# Altium footprint library MCUs.PcbLib: 27 footprints (part 1 of 2)
Each footprint in its own frame and in the unit in brackets; x right, y up, seen from the top. Pads: shape width x height; smd on the part's side, far side on the other; paste and mask are expansions set on the pad; w line width, h text height; cw(c..) or ccw(c..) is an arc to the next point about the centre after c.
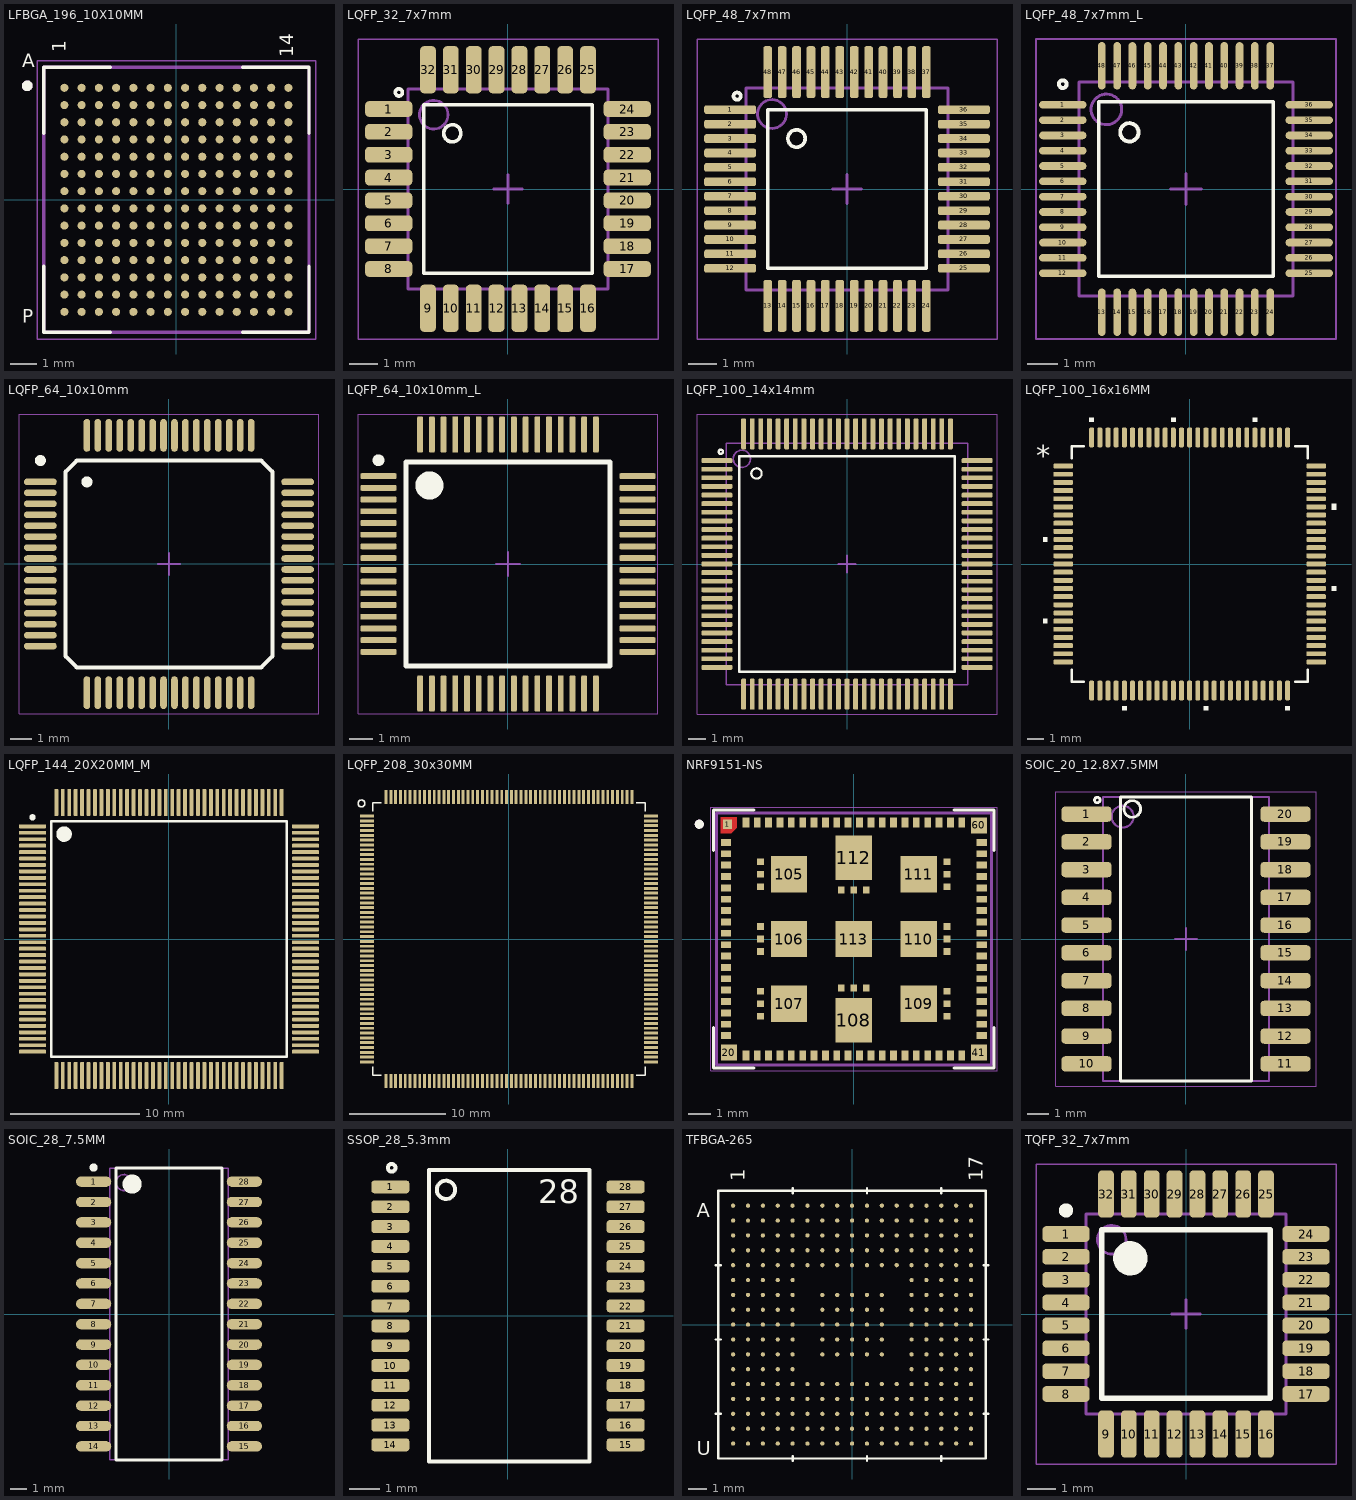
[diagram p0: the footprints below, top view; thin cyan lines are the x and y axes]

## LFBGA_196_10X10MM [mm] "20230731/ N-A.Potosi"
pads (196):
  round 0.305 smd paste-0.013 mask+0.076: A1(-4.225,4.225) A2(-3.575,4.225) A3(-2.925,4.225) A4(-2.275,4.225) A5(-1.625,4.225) A6(-0.975,4.225) A7(-0.325,4.225) A8(0.325,4.225) A9(0.975,4.225) A10(1.625,4.225) A11(2.275,4.225) A12(2.925,4.225) A13(3.575,4.225) A14(4.225,4.225) B1(-4.225,3.575) B2(-3.575,3.575) B3(-2.925,3.575) B4(-2.275,3.575) B5(-1.625,3.575) B6(-0.975,3.575) B7(-0.325,3.575) B8(0.325,3.575) B9(0.975,3.575) B10(1.625,3.575) B11(2.275,3.575) B12(2.925,3.575) B13(3.575,3.575) B14(4.225,3.575) C1(-4.225,2.925) C2(-3.575,2.925) C3(-2.925,2.925) C4(-2.275,2.925) C5(-1.625,2.925) C6(-0.975,2.925) C7(-0.325,2.925) C8(0.325,2.925) C9(0.975,2.925) C10(1.625,2.925) C11(2.275,2.925) C12(2.925,2.925) C13(3.575,2.925) C14(4.225,2.925) D1(-4.225,2.275) D2(-3.575,2.275) D3(-2.925,2.275) D4(-2.275,2.275) D5(-1.625,2.275) D6(-0.975,2.275) D7(-0.325,2.275) D8(0.325,2.275) D9(0.975,2.275) D10(1.625,2.275) D11(2.275,2.275) D12(2.925,2.275) D13(3.575,2.275) D14(4.225,2.275) E1(-4.225,1.625) E2(-3.575,1.625) E3(-2.925,1.625) E4(-2.275,1.625) E5(-1.625,1.625) E6(-0.975,1.625) E7(-0.325,1.625) E8(0.325,1.625) E9(0.975,1.625) E10(1.625,1.625) E11(2.275,1.625) E12(2.925,1.625) E13(3.575,1.625) E14(4.225,1.625) F1(-4.225,0.975) F2(-3.575,0.975) F3(-2.925,0.975) F4(-2.275,0.975) F5(-1.625,0.975) F6(-0.975,0.975) F7(-0.325,0.975) F8(0.325,0.975) F9(0.975,0.975) F10(1.625,0.975) F11(2.275,0.975) F12(2.925,0.975) F13(3.575,0.975) F14(4.225,0.975) G1(-4.225,0.325) G2(-3.575,0.325) G3(-2.925,0.325) G4(-2.275,0.325) G5(-1.625,0.325) G6(-0.975,0.325) G7(-0.325,0.325) G8(0.325,0.325) G9(0.975,0.325) G10(1.625,0.325) G11(2.275,0.325) G12(2.925,0.325) G13(3.575,0.325) G14(4.225,0.325) H1(-4.225,-0.325) H2(-3.575,-0.325) H3(-2.925,-0.325) H4(-2.275,-0.325) H5(-1.625,-0.325) H6(-0.975,-0.325) H7(-0.325,-0.325) H8(0.325,-0.325) H9(0.975,-0.325) H10(1.625,-0.325) H11(2.275,-0.325) H12(2.925,-0.325) H13(3.575,-0.325) H14(4.225,-0.325) J1(-4.225,-0.975) J2(-3.575,-0.975) J3(-2.925,-0.975) J4(-2.275,-0.975) J5(-1.625,-0.975) J6(-0.975,-0.975) J7(-0.325,-0.975) J8(0.325,-0.975) J9(0.975,-0.975) J10(1.625,-0.975) J11(2.275,-0.975) J12(2.925,-0.975) J13(3.575,-0.975) J14(4.225,-0.975) K1(-4.225,-1.625) K2(-3.575,-1.625) K3(-2.925,-1.625) K4(-2.275,-1.625) K5(-1.625,-1.625) K6(-0.975,-1.625) K7(-0.325,-1.625) K8(0.325,-1.625) K9(0.975,-1.625) K10(1.625,-1.625) K11(2.275,-1.625) K12(2.925,-1.625) K13(3.575,-1.625) K14(4.225,-1.625) L1(-4.225,-2.275) L2(-3.575,-2.275) L3(-2.925,-2.275) L4(-2.275,-2.275) L5(-1.625,-2.275) L6(-0.975,-2.275) L7(-0.325,-2.275) L8(0.325,-2.275) L9(0.975,-2.275) L10(1.625,-2.275) L11(2.275,-2.275) L12(2.925,-2.275) L13(3.575,-2.275) L14(4.225,-2.275) M1(-4.225,-2.925) M2(-3.575,-2.925) M3(-2.925,-2.925) M4(-2.275,-2.925) M5(-1.625,-2.925) M6(-0.975,-2.925) M7(-0.325,-2.925) M8(0.325,-2.925) M9(0.975,-2.925) M10(1.625,-2.925) M11(2.275,-2.925) M12(2.925,-2.925) M13(3.575,-2.925) M14(4.225,-2.925) N1(-4.225,-3.575) N2(-3.575,-3.575) N3(-2.925,-3.575) N4(-2.275,-3.575) N5(-1.625,-3.575) N6(-0.975,-3.575) N7(-0.325,-3.575) N8(0.325,-3.575) N9(0.975,-3.575) N10(1.625,-3.575) N11(2.275,-3.575) N12(2.925,-3.575) N13(3.575,-3.575) N14(4.225,-3.575) P1(-4.225,-4.225) P2(-3.575,-4.225) P3(-2.925,-4.225) P4(-2.275,-4.225) P5(-1.625,-4.225) P6(-0.975,-4.225) P7(-0.325,-4.225) P8(0.325,-4.225) P9(0.975,-4.225) P10(1.625,-4.225) P11(2.275,-4.225) P12(2.925,-4.225) P13(3.575,-4.225) P14(4.225,-4.225)
Top Overlay:
  circle w0.2: c-5.625,4.3 r0.1
  lines w0.127: -5,-2.5 -5,-5 -2.5,-5 ; -5,2.5 -5,5 -2.5,5 ; 2.5,-5 5,-5 5,-2.5 ; 2.5,5 5,5 5,2.5
  text "14" at 4.41,5.374 h0.51
  text "1" at -4.174,5.557 h0.51
  text "P" at -5.81,-4.63 h0.51
  text "A" at -5.81,5 h0.51
Mechanical 1:
  circle w0.2: c-5.625,4.3 r0.1
  lines w0.127: -5,-5 -5,5 5,5 5,-5 -5,-5
Mechanical 15:
  lines w0.05: -5.25,-5.25 5.25,-5.25 5.25,5.25 -5.25,5.25 -5.25,-5.25
3D body "MIMXRT1062DVL6A--3DModel-STEP-56544.STEP": height 1.49, standoff -0.03, extent -4.996,-5.022 5.004,4.978

## LQFP_32_7x7mm [mm] "32-LQFP / 20190221 / H-D.Garcia"
height 1.6
pads (32):
  rrect50% 1.65x0.55 smd: 1(-4.175,2.8) 2(-4.175,2) 3(-4.175,1.2) 4(-4.175,0.4) 5(-4.175,-0.4) 6(-4.175,-1.2) 7(-4.175,-2) 8(-4.175,-2.8) 17(4.175,-2.8) 18(4.175,-2) 19(4.175,-1.2) 20(4.175,-0.4) 21(4.175,0.4) 22(4.175,1.2) 23(4.175,2) 24(4.175,2.8)
  rrect50% 0.55x1.65 smd: 9(-2.8,-4.175) 10(-2,-4.175) 11(-1.2,-4.175) 12(-0.4,-4.175) 13(0.4,-4.175) 14(1.2,-4.175) 15(2,-4.175) 16(2.8,-4.175) 25(2.8,4.175) 26(2,4.175) 27(1.2,4.175) 28(0.4,4.175) 29(-0.4,4.175) 30(-1.2,4.175) 31(-2,4.175) 32(-2.8,4.175)
Top Overlay:
  circle w0.127: c-1.95,1.95 r0.3
  circle w0.127: c-3.82,3.38 r0.125
  lines w0.127: -2.95,-2.95 2.95,-2.95 2.95,2.95 -2.95,2.95 -2.95,-2.95
Mechanical 1:
  circle w0.1: c-2.6,2.6 r0.5
  lines w0.1: -3.5,-3.5 3.5,-3.5 3.5,3.5 -3.5,3.5 -3.5,-3.5
Mechanical 15:
  lines w0.05: -5.25,-5.25 5.25,-5.25 5.25,5.25 -5.25,5.25 -5.25,-5.25
  lines w0.1: -0.5,0 0.5,0 ; 0,-0.5 0,0.5
3D body: height 1.6, standoff 0.05, extent -3.5,-3.5 3.5,3.5

## LQFP_48_7x7mm [mm] "48-LQFP / 20190221 / H-D.Garcia"
height 1.6
pads (48):
  rrect50% 1.8x0.3 smd: 1(-4.05,2.75) 2(-4.05,2.25) 3(-4.05,1.75) 4(-4.05,1.25) 5(-4.05,0.75) 6(-4.05,0.25) 7(-4.05,-0.25) 8(-4.05,-0.75) 9(-4.05,-1.25) 10(-4.05,-1.75) 11(-4.05,-2.25) 12(-4.05,-2.75) 25(4.05,-2.75) 26(4.05,-2.25) 27(4.05,-1.75) 28(4.05,-1.25) 29(4.05,-0.75) 30(4.05,-0.25) 31(4.05,0.25) 32(4.05,0.75) 33(4.05,1.25) 34(4.05,1.75) 35(4.05,2.25) 36(4.05,2.75)
  rrect50% 0.3x1.8 smd: 13(-2.75,-4.05) 14(-2.25,-4.05) 15(-1.75,-4.05) 16(-1.25,-4.05) 17(-0.75,-4.05) 18(-0.25,-4.05) 19(0.25,-4.05) 20(0.75,-4.05) 21(1.25,-4.05) 22(1.75,-4.05) 23(2.25,-4.05) 24(2.75,-4.05) 37(2.75,4.05) 38(2.25,4.05) 39(1.75,4.05) 40(1.25,4.05) 41(0.75,4.05) 42(0.25,4.05) 43(-0.25,4.05) 44(-0.75,4.05) 45(-1.25,4.05) 46(-1.75,4.05) 47(-2.25,4.05) 48(-2.75,4.05)
Top Overlay:
  circle w0.127: c-3.81,3.22 r0.125
  circle w0.127: c-1.75,1.75 r0.3
  lines w0.127: -2.75,-2.75 -2.75,2.75 2.75,2.75 2.75,-2.75 -2.75,-2.75
Mechanical 1:
  circle w0.1: c-2.6,2.6 r0.5
  lines w0.1: -3.5,-3.5 -3.5,3.5 3.5,3.5 3.5,-3.5 -3.5,-3.5
Mechanical 15:
  lines w0.05: -5.2,-5.2 -5.2,5.2 5.2,5.2 5.2,-5.2 -5.2,-5.2
  lines w0.1: -0.5,0 0.5,0 ; 0,-0.5 0,0.5
3D body: height 1.6, standoff 0.05, extent -3.5,-3.5 3.5,3.5

## LQFP_48_7x7mm_L [mm] "48-LQFP / 20191121 / M-X.Arias"
height 1.6
pads (48):
  oval 1.55x0.25 smd: 1(-4.025,2.75) 2(-4.025,2.25) 3(-4.025,1.75) 4(-4.025,1.25) 5(-4.025,0.75) 6(-4.025,0.25) 7(-4.025,-0.25) 8(-4.025,-0.75) 9(-4.025,-1.25) 10(-4.025,-1.75) 11(-4.025,-2.25) 12(-4.025,-2.75) 25(4.025,-2.75) 26(4.025,-2.25) 27(4.025,-1.75) 28(4.025,-1.25) 29(4.025,-0.75) 30(4.025,-0.25) 31(4.025,0.25) 32(4.025,0.75) 33(4.025,1.25) 34(4.025,1.75) 35(4.025,2.25) 36(4.025,2.75)
  oval 0.25x1.55 smd: 13(-2.75,-4.025) 14(-2.25,-4.025) 15(-1.75,-4.025) 16(-1.25,-4.025) 17(-0.75,-4.025) 18(-0.25,-4.025) 19(0.25,-4.025) 20(0.75,-4.025) 21(1.25,-4.025) 22(1.75,-4.025) 23(2.25,-4.025) 24(2.75,-4.025) 37(2.75,4.025) 38(2.25,4.025) 39(1.75,4.025) 40(1.25,4.025) 41(0.75,4.025) 42(0.25,4.025) 43(-0.25,4.025) 44(-0.75,4.025) 45(-1.25,4.025) 46(-1.75,4.025) 47(-2.25,4.025) 48(-2.75,4.025)
Top Overlay:
  circle w0.127: c-1.85,1.85 r0.3
  circle w0.127: c-4.025,3.425 r0.125
  lines w0.127: -2.85,-2.85 2.85,-2.85 2.85,2.85 -2.85,2.85 -2.85,-2.85
Mechanical 1:
  circle w0.1: c-2.6,2.6 r0.5
  lines w0.1: -3.5,-3.5 3.5,-3.5 3.5,3.5 -3.5,3.5 -3.5,-3.5
Mechanical 15:
  lines w0.05: -4.9,-4.9 4.9,-4.9 4.9,4.9 -4.9,4.9 -4.9,-4.9
  lines w0.1: -0.5,0 0.5,0 ; 0,-0.5 0,0.5
3D body: height 1.6, standoff 0, extent -3.5,-3.5 3.5,3.5

## LQFP_64_10x10mm [mm] "64-LQFP / 20211216 / C-E.Rincon"
height 1.7
pads (64):
  oval 1.5x0.3 smd mask+0.05: 1(-5.875,3.75) 2(-5.875,3.25) 3(-5.875,2.75) 4(-5.875,2.25) 5(-5.875,1.75) 6(-5.875,1.25) 7(-5.875,0.75) 8(-5.875,0.25) 9(-5.875,-0.25) 10(-5.875,-0.75) 11(-5.875,-1.25) 12(-5.875,-1.75) 13(-5.875,-2.25) 14(-5.875,-2.75) 15(-5.875,-3.25) 16(-5.875,-3.75) 33(5.875,-3.75) 34(5.875,-3.25) 35(5.875,-2.75) 36(5.875,-2.25) 37(5.875,-1.75) 38(5.875,-1.25) 39(5.875,-0.75) 40(5.875,-0.25) 41(5.875,0.25) 42(5.875,0.75) 43(5.875,1.25) 44(5.875,1.75) 45(5.875,2.25) 46(5.875,2.75) 47(5.875,3.25) 48(5.875,3.75)
  oval 0.3x1.5 smd mask+0.05: 17(-3.75,-5.875) 18(-3.25,-5.875) 19(-2.75,-5.875) 20(-2.25,-5.875) 21(-1.75,-5.875) 22(-1.25,-5.875) 23(-0.75,-5.875) 24(-0.25,-5.875) 25(0.25,-5.875) 26(0.75,-5.875) 27(1.25,-5.875) 28(1.75,-5.875) 29(2.25,-5.875) 30(2.75,-5.875) 31(3.25,-5.875) 32(3.75,-5.875) 49(3.75,5.875) 50(3.25,5.875) 51(2.75,5.875) 52(2.25,5.875) 53(1.75,5.875) 54(1.25,5.875) 55(0.75,5.875) 56(0.25,5.875) 57(-0.25,5.875) 58(-0.75,5.875) 59(-1.25,5.875) 60(-1.75,5.875) 61(-2.25,5.875) 62(-2.75,5.875) 63(-3.25,5.875) 64(-3.75,5.875)
Top Overlay:
  circle w0.25: c-3.75,3.75 r0.125
  circle w0.25: c-5.875,4.725 r0.125
  lines w0.2: -4.725,-4.205 -4.205,-4.725 4.205,-4.725 4.725,-4.205 4.725,4.205 4.205,4.725 -4.205,4.725 -4.725,4.205 -4.725,-4.205
Mechanical 15:
  lines w0.05: -6.85,-6.85 6.85,-6.85 6.85,6.85 -6.85,6.85 -6.85,-6.85
  lines w0.1: -0.5,0 0.5,0 ; 0,-0.5 0,0.5
3D body "LQFP_64_10x10MM-1.step": height 1.54, standoff 0, extent -6.25,-6.25 6.25,6.25

## LQFP_64_10x10mm_L [mm] "64-LQFP / 20190726 / V-A.Patino"
pads (64):
  rrect50% 1.55x0.25 smd: 1(-5.525,3.75) 2(-5.525,3.25) 3(-5.525,2.75) 4(-5.525,2.25) 5(-5.525,1.75) 6(-5.525,1.25) 7(-5.525,0.75) 8(-5.525,0.25) 9(-5.525,-0.25) 10(-5.525,-0.75) 11(-5.525,-1.25) 12(-5.525,-1.75) 13(-5.525,-2.25) 14(-5.525,-2.75) 15(-5.525,-3.25) 16(-5.525,-3.75) 33(5.525,-3.75) 34(5.525,-3.25) 35(5.525,-2.75) 36(5.525,-2.25) 37(5.525,-1.75) 38(5.525,-1.25) 39(5.525,-0.75) 40(5.525,-0.25) 41(5.525,0.25) 42(5.525,0.75) 43(5.525,1.25) 44(5.525,1.75) 45(5.525,2.25) 46(5.525,2.75) 47(5.525,3.25) 48(5.525,3.75)
  rrect50% 0.25x1.55 smd: 17(-3.75,-5.525) 18(-3.25,-5.525) 19(-2.75,-5.525) 20(-2.25,-5.525) 21(-1.75,-5.525) 22(-1.25,-5.525) 23(-0.75,-5.525) 24(-0.25,-5.525) 25(0.25,-5.525) 26(0.75,-5.525) 27(1.25,-5.525) 28(1.75,-5.525) 29(2.25,-5.525) 30(2.75,-5.525) 31(3.25,-5.525) 32(3.75,-5.525) 49(3.75,5.525) 50(3.25,5.525) 51(2.75,5.525) 52(2.25,5.525) 53(1.75,5.525) 54(1.25,5.525) 55(0.75,5.525) 56(0.25,5.525) 57(-0.25,5.525) 58(-0.75,5.525) 59(-1.25,5.525) 60(-1.75,5.525) 61(-2.25,5.525) 62(-2.75,5.525) 63(-3.25,5.525) 64(-3.75,5.525)
Top Overlay:
  circle w0.25: c-5.525,4.425 r0.125
  circle w0.6: c-3.35,3.35 r0.3
  lines w0.2: -4.35,-4.35 -4.35,4.35 4.35,4.35 4.35,-4.35 -4.35,-4.35
Mechanical 15:
  lines w0.05: -6.4,-6.4 -6.4,6.4 6.4,6.4 6.4,-6.4 -6.4,-6.4
  lines w0.1: -0.5,0 0.5,0 ; 0,-0.5 0,0.5
3D body: height 1.6, standoff 0, extent -5,-5 5,5

## LQFP_100_14x14mm [mm] "100-LQFP / 20210511 / M-C.Calderon"
height 1.6
pads (100):
  rrect50% 1.8x0.28 smd: 1(-7.55,6) 2(-7.55,5.5) 3(-7.55,5) 4(-7.55,4.5) 5(-7.55,4) 6(-7.55,3.5) 7(-7.55,3) 8(-7.55,2.5) 9(-7.55,2) 10(-7.55,1.5) 11(-7.55,1) 12(-7.55,0.5) 13(-7.55,0) 14(-7.55,-0.5) 15(-7.55,-1) 16(-7.55,-1.5) 17(-7.55,-2) 18(-7.55,-2.5) 19(-7.55,-3) 20(-7.55,-3.5) 21(-7.55,-4) 22(-7.55,-4.5) 23(-7.55,-5) 24(-7.55,-5.5) 25(-7.55,-6) 51(7.55,-6) 52(7.55,-5.5) 53(7.55,-5) 54(7.55,-4.5) 55(7.55,-4) 56(7.55,-3.5) 57(7.55,-3) 58(7.55,-2.5) 59(7.55,-2) 60(7.55,-1.5) 61(7.55,-1) 62(7.55,-0.5) 63(7.55,0) 64(7.55,0.5) 65(7.55,1) 66(7.55,1.5) 67(7.55,2) 68(7.55,2.5) 69(7.55,3) 70(7.55,3.5) 71(7.55,4) 72(7.55,4.5) 73(7.55,5) 74(7.55,5.5) 75(7.55,6)
  rrect50% 0.28x1.8 smd: 26(-6,-7.55) 27(-5.5,-7.55) 28(-5,-7.55) 29(-4.5,-7.55) 30(-4,-7.55) 31(-3.5,-7.55) 32(-3,-7.55) 33(-2.5,-7.55) 34(-2,-7.55) 35(-1.5,-7.55) 36(-1,-7.55) 37(-0.5,-7.55) 38(0,-7.55) 39(0.5,-7.55) 40(1,-7.55) 41(1.5,-7.55) 42(2,-7.55) 43(2.5,-7.55) 44(3,-7.55) 45(3.5,-7.55) 46(4,-7.55) 47(4.5,-7.55) 48(5,-7.55) 49(5.5,-7.55) 50(6,-7.55) 76(6,7.55) 77(5.5,7.55) 78(5,7.55) 79(4.5,7.55) 80(4,7.55) 81(3.5,7.55) 82(3,7.55) 83(2.5,7.55) 84(2,7.55) 85(1.5,7.55) 86(1,7.55) 87(0.5,7.55) 88(0,7.55) 89(-0.5,7.55) 90(-1,7.55) 91(-1.5,7.55) 92(-2,7.55) 93(-2.5,7.55) 94(-3,7.55) 95(-3.5,7.55) 96(-4,7.55) 97(-4.5,7.55) 98(-5,7.55) 99(-5.5,7.55) 100(-6,7.55)
Top Overlay:
  circle w0.127: c-5.25,5.25 r0.3
  circle w0.127: c-7.32,6.51 r0.125
  lines w0.127: -6.25,-6.25 6.25,-6.25 6.25,6.25 -6.25,6.25 -6.25,-6.25
Mechanical 1:
  circle w0.1: c-6.1,6.1 r0.5
  lines w0.1: -7,-7 -7,7 7,7 7,-7 -7,-7
Mechanical 15:
  lines w0.05: -8.7,-8.7 8.7,-8.7 8.7,8.7 -8.7,8.7 -8.7,-8.7
  lines w0.1: -0.5,0 0.5,0 ; 0,-0.5 0,0.5
3D body: height 1.6, standoff 0.05, extent -7,-7 7,7

## LQFP_100_16x16MM [mm] "/20230120/J-A.Sepulveda"
pads (100):
  rrect50% 1.2x0.3 smd: 1(-7.75,6.001) 2(-7.75,5.5) 3(-7.75,5.001) 4(-7.75,4.501) 5(-7.75,4) 6(-7.75,3.501) 7(-7.75,3) 8(-7.75,2.501) 9(-7.75,2.001) 10(-7.75,1.5) 11(-7.75,1.001) 12(-7.75,0.501) 13(-7.75,0.001) 14(-7.75,-0.499) 15(-7.75,-1) 16(-7.75,-1.499) 17(-7.75,-1.999) 18(-7.75,-2.499) 19(-7.75,-2.999) 20(-7.75,-3.5) 21(-7.75,-3.999) 22(-7.75,-4.499) 23(-7.75,-4.999) 24(-7.75,-5.499) 25(-7.75,-6) 51(7.75,-6) 52(7.75,-5.499) 53(7.75,-4.999) 54(7.75,-4.5) 55(7.75,-3.999) 56(7.75,-3.5) 57(7.75,-2.999) 58(7.75,-2.499) 59(7.75,-2) 60(7.75,-1.499) 61(7.75,-1) 62(7.75,-0.499) 63(7.75,0.001) 64(7.75,0.5) 65(7.75,1.001) 66(7.75,1.5) 67(7.75,2.001) 68(7.75,2.501) 69(7.75,3) 70(7.75,3.501) 71(7.75,4) 72(7.75,4.501) 73(7.75,5.001) 74(7.75,5.5) 75(7.75,6.001)
  rrect50% 0.3x1.2 smd: 26(-6,-7.75) 27(-5.5,-7.75) 28(-5,-7.75) 29(-4.5,-7.75) 30(-4,-7.75) 31(-3.5,-7.75) 32(-3,-7.75) 33(-2.5,-7.75) 34(-2,-7.75) 35(-1.5,-7.75) 36(-1,-7.75) 37(-0.5,-7.75) 38(0,-7.75) 39(0.5,-7.75) 40(1,-7.75) 41(1.5,-7.75) 42(2,-7.75) 43(2.5,-7.75) 44(3,-7.75) 45(3.5,-7.75) 46(4,-7.75) 47(4.5,-7.75) 48(5,-7.75) 49(5.5,-7.75) 50(6,-7.75) 76(6,7.75) 77(5.5,7.75) 78(5,7.75) 79(4.5,7.75) 80(4,7.75) 81(3.5,7.75) 82(3,7.75) 83(2.5,7.75) 84(2,7.75) 85(1.5,7.75) 86(1,7.75) 87(0.5,7.75) 88(0,7.75) 89(-0.5,7.75) 90(-1,7.75) 91(-1.5,7.75) 92(-2,7.75) 93(-2.5,7.75) 94(-3,7.75) 95(-3.5,7.75) 96(-4,7.75) 97(-4.5,7.75) 98(-5,7.75) 99(-5.5,7.75) 100(-6,7.75)
Top Overlay:
  region: 8.712,-1.359 8.966,-1.359 8.966,-1.631 8.712,-1.631
  region: 8.712,3.691 8.966,3.691 8.966,3.31 8.712,3.31
  region: 6.136,-8.712 6.136,-8.966 5.864,-8.966 5.864,-8.712
  region: 1.136,-8.712 1.136,-8.966 0.864,-8.966 0.864,-8.712
  region: -3.864,-8.712 -3.864,-8.966 -4.136,-8.966 -4.136,-8.712
  region: -8.712,-3.635 -8.966,-3.635 -8.966,-3.364 -8.712,-3.364
  region: -8.712,1.365 -8.966,1.365 -8.966,1.636 -8.712,1.636
  region: -6.136,8.713 -6.136,8.967 -5.864,8.967 -5.864,8.713
  region: -1.136,8.713 -1.136,8.967 -0.864,8.967 -0.864,8.713
  region: 3.864,8.713 3.864,8.967 4.136,8.967 4.136,8.713
  lines w0.152: -7.226,-6.472 -7.226,-7.226 -6.472,-7.226 ; -7.226,6.473 -7.226,7.227 -6.472,7.227 ; 6.472,-7.226 7.226,-7.226 7.226,-6.472 ; 6.472,7.227 7.226,7.227 7.226,6.473
  text "*" at -9.411,5.997 h1.27
3D body "LQFP-100_STM.step": height 1.6, standoff 0, extent -8.103,-8.102 8.103,8.103

## LQFP_144_20X20MM_M [mm] "/20210906/V-A.Patino"
pads (144):
  rrect50% 2.1x0.3 smd: 1(-10.6,8.75) 2(-10.6,8.25) 3(-10.6,7.75) 4(-10.6,7.25) 5(-10.6,6.75) 6(-10.6,6.25) 7(-10.6,5.75) 8(-10.6,5.25) 9(-10.6,4.75) 10(-10.6,4.25) 11(-10.6,3.75) 12(-10.6,3.25) 13(-10.6,2.75) 14(-10.6,2.25) 15(-10.6,1.75) 16(-10.6,1.25) 17(-10.6,0.75) 18(-10.6,0.25) 19(-10.6,-0.25) 20(-10.6,-0.75) 21(-10.6,-1.25) 22(-10.6,-1.75) 23(-10.6,-2.25) 24(-10.6,-2.75) 25(-10.6,-3.25) 26(-10.6,-3.75) 27(-10.6,-4.25) 28(-10.6,-4.75) 29(-10.6,-5.25) 30(-10.6,-5.75) 31(-10.6,-6.25) 32(-10.6,-6.75) 33(-10.6,-7.25) 34(-10.6,-7.75) 35(-10.6,-8.25) 36(-10.6,-8.75) 73(10.6,-8.75) 74(10.6,-8.25) 75(10.6,-7.75) 76(10.6,-7.25) 77(10.6,-6.75) 78(10.6,-6.25) 79(10.6,-5.75) 80(10.6,-5.25) 81(10.6,-4.75) 82(10.6,-4.25) 83(10.6,-3.75) 84(10.6,-3.25) 85(10.6,-2.75) 86(10.6,-2.25) 87(10.6,-1.75) 88(10.6,-1.25) 89(10.6,-0.75) 90(10.6,-0.25) 91(10.6,0.25) 92(10.6,0.75) 93(10.6,1.25) 94(10.6,1.75) 95(10.6,2.25) 96(10.6,2.75) 97(10.6,3.25) 98(10.6,3.75) 99(10.6,4.25) 100(10.6,4.75) 101(10.6,5.25) 102(10.6,5.75) 103(10.6,6.25) 104(10.6,6.75) 105(10.6,7.25) 106(10.6,7.75) 107(10.6,8.25) 108(10.6,8.75)
  rrect50% 0.3x2.1 smd: 37(-8.75,-10.6) 38(-8.25,-10.6) 39(-7.75,-10.6) 40(-7.25,-10.6) 41(-6.75,-10.6) 42(-6.25,-10.6) 43(-5.75,-10.6) 44(-5.25,-10.6) 45(-4.75,-10.6) 46(-4.25,-10.6) 47(-3.75,-10.6) 48(-3.25,-10.6) 49(-2.75,-10.6) 50(-2.25,-10.6) 51(-1.75,-10.6) 52(-1.25,-10.6) 53(-0.75,-10.6) 54(-0.25,-10.6) 55(0.25,-10.6) 56(0.75,-10.6) 57(1.25,-10.6) 58(1.75,-10.6) 59(2.25,-10.6) 60(2.75,-10.6) 61(3.25,-10.6) 62(3.75,-10.6) 63(4.25,-10.6) 64(4.75,-10.6) 65(5.25,-10.6) 66(5.75,-10.6) 67(6.25,-10.6) 68(6.75,-10.6) 69(7.25,-10.6) 70(7.75,-10.6) 71(8.25,-10.6) 72(8.75,-10.6) 109(8.75,10.6) 110(8.25,10.6) 111(7.75,10.6) 112(7.25,10.6) 113(6.75,10.6) 114(6.25,10.6) 115(5.75,10.6) 116(5.25,10.6) 117(4.75,10.6) 118(4.25,10.6) 119(3.75,10.6) 120(3.25,10.6) 121(2.75,10.6) 122(2.25,10.6) 123(1.75,10.6) 124(1.25,10.6) 125(0.75,10.6) 126(0.25,10.6) 127(-0.25,10.6) 128(-0.75,10.6) 129(-1.25,10.6) 130(-1.75,10.6) 131(-2.25,10.6) 132(-2.75,10.6) 133(-3.25,10.6) 134(-3.75,10.6) 135(-4.25,10.6) 136(-4.75,10.6) 137(-5.25,10.6) 138(-5.75,10.6) 139(-6.25,10.6) 140(-6.75,10.6) 141(-7.25,10.6) 142(-7.75,10.6) 143(-8.25,10.6) 144(-8.75,10.6)
Top Overlay:
  circle w0.6: c-8.15,8.15 r0.3
  circle w0.25: c-10.6,9.45 r0.125
  lines w0.2: -9.15,-9.15 9.15,-9.15 9.15,9.15 -9.15,9.15 -9.15,-9.15
3D body: height 1.6, standoff 0.05, extent -10,-10 10,10

## LQFP_208_30x30MM [mm] "/20220517/V-A.Patino"
pads (208):
  rect 1.473x0.3 smd mask+0.051: 1(-14.719,12.75) 2(-14.719,12.25) 3(-14.719,11.75) 4(-14.719,11.25) 5(-14.719,10.75) 6(-14.719,10.25) 7(-14.719,9.75) 8(-14.719,9.25) 9(-14.719,8.75) 10(-14.719,8.25) 11(-14.719,7.75) 12(-14.719,7.25) 13(-14.719,6.75) 14(-14.719,6.25) 15(-14.719,5.75) 16(-14.719,5.25) 17(-14.719,4.75) 18(-14.719,4.25) 19(-14.719,3.75) 20(-14.719,3.25) 21(-14.719,2.75) 22(-14.719,2.25) 23(-14.719,1.75) 24(-14.719,1.25) 25(-14.719,0.75) 26(-14.719,0.25) 27(-14.719,-0.25) 28(-14.719,-0.75) 29(-14.719,-1.25) 30(-14.719,-1.75) 31(-14.719,-2.25) 32(-14.719,-2.75) 33(-14.719,-3.25) 34(-14.719,-3.75) 35(-14.719,-4.25) 36(-14.719,-4.75) 37(-14.719,-5.25) 38(-14.719,-5.75) 39(-14.719,-6.25) 40(-14.719,-6.75) 41(-14.719,-7.25) 42(-14.719,-7.75) 43(-14.719,-8.25) 44(-14.719,-8.75) 45(-14.719,-9.25) 46(-14.719,-9.75) 47(-14.719,-10.25) 48(-14.719,-10.75) 49(-14.719,-11.25) 50(-14.719,-11.75) 51(-14.719,-12.25) 52(-14.719,-12.75) 105(14.719,-12.75) 106(14.719,-12.25) 107(14.719,-11.75) 108(14.719,-11.25) 109(14.719,-10.75) 110(14.719,-10.25) 111(14.719,-9.75) 112(14.719,-9.25) 113(14.719,-8.75) 114(14.719,-8.25) 115(14.719,-7.75) 116(14.719,-7.25) 117(14.719,-6.75) 118(14.719,-6.25) 119(14.719,-5.75) 120(14.719,-5.25) 121(14.719,-4.75) 122(14.719,-4.25) 123(14.719,-3.75) 124(14.719,-3.25) 125(14.719,-2.75) 126(14.719,-2.25) 127(14.719,-1.75) 128(14.719,-1.25) 129(14.719,-0.75) 130(14.719,-0.25) 131(14.719,0.25) 132(14.719,0.75) 133(14.719,1.25) 134(14.719,1.75) 135(14.719,2.25) 136(14.719,2.75) 137(14.719,3.25) 138(14.719,3.75) 139(14.719,4.25) 140(14.719,4.75) 141(14.719,5.25) 142(14.719,5.75) 143(14.719,6.25) 144(14.719,6.75) 145(14.719,7.25) 146(14.719,7.75) 147(14.719,8.25) 148(14.719,8.75) 149(14.719,9.25) 150(14.719,9.75) 151(14.719,10.25) 152(14.719,10.75) 153(14.719,11.25) 154(14.719,11.75) 155(14.719,12.25) 156(14.719,12.75)
  rect 0.3x1.473 smd mask+0.051: 53(-12.75,-14.719) 54(-12.25,-14.719) 55(-11.75,-14.719) 56(-11.25,-14.719) 57(-10.75,-14.719) 58(-10.25,-14.719) 59(-9.75,-14.719) 60(-9.25,-14.719) 61(-8.75,-14.719) 62(-8.25,-14.719) 63(-7.75,-14.719) 64(-7.25,-14.719) 65(-6.75,-14.719) 66(-6.25,-14.719) 67(-5.75,-14.719) 68(-5.25,-14.719) 69(-4.75,-14.719) 70(-4.25,-14.719) 71(-3.75,-14.719) 72(-3.25,-14.719) 73(-2.75,-14.719) 74(-2.25,-14.719) 75(-1.75,-14.719) 76(-1.25,-14.719) 77(-0.75,-14.719) 78(-0.25,-14.719) 79(0.25,-14.719) 80(0.75,-14.719) 81(1.25,-14.719) 82(1.75,-14.719) 83(2.25,-14.719) 84(2.75,-14.719) 85(3.25,-14.719) 86(3.75,-14.719) 87(4.25,-14.719) 88(4.75,-14.719) 89(5.25,-14.719) 90(5.75,-14.719) 91(6.25,-14.719) 92(6.75,-14.719) 93(7.25,-14.719) 94(7.75,-14.719) 95(8.25,-14.719) 96(8.75,-14.719) 97(9.25,-14.719) 98(9.75,-14.719) 99(10.25,-14.719) 100(10.75,-14.719) 101(11.25,-14.719) 102(11.75,-14.719) 103(12.25,-14.719) 104(12.75,-14.719) 157(12.75,14.719) 158(12.25,14.719) 159(11.75,14.719) 160(11.25,14.719) 161(10.75,14.719) 162(10.25,14.719) 163(9.75,14.719) 164(9.25,14.719) 165(8.75,14.719) 166(8.25,14.719) 167(7.75,14.719) 168(7.25,14.719) 169(6.75,14.719) 170(6.25,14.719) 171(5.75,14.719) 172(5.25,14.719) 173(4.75,14.719) 174(4.25,14.719) 175(3.75,14.719) 176(3.25,14.719) 177(2.75,14.719) 178(2.25,14.719) 179(1.75,14.719) 180(1.25,14.719) 181(0.75,14.719) 182(0.25,14.719) 183(-0.25,14.719) 184(-0.75,14.719) 185(-1.25,14.719) 186(-1.75,14.719) 187(-2.25,14.719) 188(-2.75,14.719) 189(-3.25,14.719) 190(-3.75,14.719) 191(-4.25,14.719) 192(-4.75,14.719) 193(-5.25,14.719) 194(-5.75,14.719) 195(-6.25,14.719) 196(-6.75,14.719) 197(-7.25,14.719) 198(-7.75,14.719) 199(-8.25,14.719) 200(-8.75,14.719) 201(-9.25,14.719) 202(-9.75,14.719) 203(-10.25,14.719) 204(-10.75,14.719) 205(-11.25,14.719) 206(-11.75,14.719) 207(-12.25,14.719) 208(-12.75,14.719)
Top Overlay:
  circle w0.152: c-15.3,14.06 r0.355
  lines w0.152: -14.122,-13.222 -14.122,-14.122 -13.222,-14.122 ; -14.122,13.222 -14.122,14.122 -13.222,14.122 ; 13.222,-14.122 14.122,-14.122 14.122,-13.222 ; 13.222,14.122 14.122,14.122 14.122,13.222
3D body "LQFP208_SME.step": height 1.6, standoff 0, extent -15.1,-15.1 15.1,15.1

## NRF9151-NS [mm] "/170526 / J.Jaramillo"
pads (113):
  rect 0.4x0.4 smd paste-1 mask+0: 1(-5.55,5.05)
  rect 0.45x0.3 smd paste-1 mask+0.05: 2(-5.625,4.25) 3(-5.625,3.75) 4(-5.625,3.25) 5(-5.625,2.75) 6(-5.625,2.25) 7(-5.625,1.75) 8(-5.625,1.25) 9(-5.625,0.75) 10(-5.625,0.25) 11(-5.625,-0.25) 12(-5.625,-0.75) 13(-5.625,-1.25) 14(-5.625,-1.75) 15(-5.625,-2.25) 16(-5.625,-2.75) 17(-5.625,-3.25) 18(-5.625,-3.75) 19(-5.625,-4.25) 42(5.625,-4.25) 43(5.625,-3.75) 44(5.625,-3.25) 45(5.625,-2.75) 46(5.625,-2.25) 47(5.625,-1.75) 48(5.625,-1.25) 49(5.625,-0.75) 50(5.625,-0.25) 51(5.625,0.25) 52(5.625,0.75) 53(5.625,1.25) 54(5.625,1.75) 55(5.625,2.25) 56(5.625,2.75) 57(5.625,3.25) 58(5.625,3.75) 59(5.625,4.25)
  rect 0.7x0.7 smd paste-0.045 mask+0.05: 20(-5.5,-5) 41(5.5,-5) 60(5.5,5)
  rect 0.3x0.45 smd paste-1 mask+0.05: 21(-4.75,-5.125) 22(-4.25,-5.125) 23(-3.75,-5.125) 24(-3.25,-5.125) 25(-2.75,-5.125) 26(-2.25,-5.125) 27(-1.75,-5.125) 28(-1.25,-5.125) 29(-0.75,-5.125) 30(-0.25,-5.125) 31(0.25,-5.125) 32(0.75,-5.125) 33(1.25,-5.125) 34(1.75,-5.125) 35(2.25,-5.125) 36(2.75,-5.125) 37(3.25,-5.125) 38(3.75,-5.125) 39(4.25,-5.125) 40(4.75,-5.125) 61(4.75,5.125) 62(4.25,5.125) 63(3.75,5.125) 64(3.25,5.125) 65(2.75,5.125) 66(2.25,5.125) 67(1.75,5.125) 68(1.25,5.125) 69(0.75,5.125) 70(0.25,5.125) 71(-0.25,5.125) 72(-0.75,5.125) 73(-1.25,5.125) 74(-1.75,5.125) 75(-2.25,5.125) 76(-2.75,5.125) 77(-3.25,5.125) 78(-3.75,5.125) 79(-4.25,5.125) 80(-4.75,5.125)
  rect 0.3x0.3 smd paste-0.02 mask+0.05: 81(-4.1,3.4) 82(-4.1,2.85) 83(-4.1,2.3) 84(-4.1,0.55) 85(-4.1,0) 86(-4.1,-0.55) 87(-4.1,-2.3) 88(-4.1,-2.85) 89(-4.1,-3.4) 90(-0.55,-2.15) 91(0,-2.15) 92(0.55,-2.15) 93(4.1,-3.4) 94(4.1,-2.85) 95(4.1,-2.3) 96(4.1,-0.55) 97(4.1,0) 98(4.1,0.55) 99(4.1,2.3) 100(4.1,2.85) 101(4.1,3.4) 102(0.55,2.15) 103(0,2.15) 104(-0.55,2.15)
  rect 1.6x1.6 smd paste-0.105 mask+0.05: 105(-2.85,2.85) 106(-2.85,0) 107(-2.85,-2.85) 109(2.85,-2.85) 110(2.85,0) 111(2.85,2.85) 113(0,0)
  rect 1.6x1.95 smd paste-2 mask+0.05: 108(0,-3.575) 112(0,3.575)
Top Layer:
  region: -5.15,4.9 -5.4,4.65 -5.85,4.65 -5.85,5.35 -5.15,5.35
Top Overlay:
  circle w0.2: c-6.8,5.05 r0.1
  lines w0.127: -6.17,-3.9 -6.17,-5.67 -4.4,-5.67 ; -6.17,3.9 -6.17,5.67 -4.4,5.67 ; 4.4,-5.67 6.17,-5.67 6.17,-3.9 ; 4.4,5.67 6.17,5.67 6.17,3.9
Top Paste:
  drawing of 79 lines, arcs and shapes, not listed
Top Solder:
  region: -5.1,4.878 -5.378,4.6 -5.9,4.6 -5.9,5.4 -5.1,5.4
Mechanical 13:
  circle w0.2: c-6.8,5.05 r0.1
  lines w0.127: -6.05,-5.55 -6.05,5.55 6.05,5.55 6.05,-5.55 -6.05,-5.55
Mechanical 15:
  lines w0.05: -6.3,-5.8 -6.3,5.8 6.3,5.8 6.3,-5.8 -6.3,-5.8
3D body "step_temp.STEP": height 1.3, standoff 0, extent -6.05,-5.55 6.05,5.55

## SOIC_20_12.8X7.5MM [mm] "20-SOIC / 0190221 / H-D.Garcia"
pads (20):
  rrect50% 2.3x0.7 smd: 1(-4.55,5.715) 2(-4.55,4.445) 3(-4.55,3.175) 4(-4.55,1.905) 5(-4.55,0.635) 6(-4.55,-0.635) 7(-4.55,-1.905) 8(-4.55,-3.175) 9(-4.55,-4.445) 10(-4.55,-5.715) 11(4.55,-5.715) 12(4.55,-4.445) 13(4.55,-3.175) 14(4.55,-1.905) 15(4.55,-0.635) 16(4.55,0.635) 17(4.55,1.905) 18(4.55,3.175) 19(4.55,4.445) 20(4.55,5.715)
Top Overlay:
  circle w0.127: c-2.46,5.95 r0.381
  circle w0.127: c-4.06,6.36 r0.125
  lines w0.127: -3,-6.5 3,-6.5 3,6.5 -3,6.5 -3,-6.5
Mechanical 1:
  circle w0.1: c-2.9,5.6 r0.5
  lines w0.1: -3.8,-6.5 -3.8,6.5 3.8,6.5 3.8,-6.5 -3.8,-6.5
Mechanical 15:
  lines w0.05: -5.95,-6.75 5.95,-6.75 5.95,6.75 -5.95,6.75 -5.95,-6.75
  lines w0.1: -0.5,0 0.5,0 ; 0,-0.5 0,0.5
3D body: height 2.65, standoff 0.1, extent -3.8,-6.5 3.8,6.5

## SOIC_28_7.5MM [mm] "28-SOIC/ 20210427/ C-E. Rincon"
height 3
pads (28):
  oval 2.2x0.65 smd: 1(-4.7,8.255) 2(-4.7,6.985) 3(-4.7,5.715) 4(-4.7,4.445) 5(-4.7,3.175) 6(-4.7,1.905) 7(-4.7,0.635) 8(-4.7,-0.635) 9(-4.7,-1.905) 10(-4.7,-3.175) 11(-4.7,-4.445) 12(-4.7,-5.715) 13(-4.7,-6.985) 14(-4.7,-8.255) 15(4.7,-8.255) 16(4.7,-6.985) 17(4.7,-5.715) 18(4.7,-4.445) 19(4.7,-3.175) 20(4.7,-1.905) 21(4.7,-0.635) 22(4.7,0.635) 23(4.7,1.905) 24(4.7,3.175) 25(4.7,4.445) 26(4.7,5.715) 27(4.7,6.985) 28(4.7,8.255)
Top Overlay:
  circle w0.25: c-4.7,9.13 r0.125
  circle w0.6: c-2.3,8.1 r0.3
  lines w0.2: -3.3,-9.1 -3.3,9.1 3.3,9.1 3.3,-9.1 -3.3,-9.1
Mechanical 13:
  circle w0.1: c-2.8,8.2 r0.5
  lines w0.1: -3.7,-9.1 -3.7,9.1 3.7,9.1 3.7,-9.1 -3.7,-9.1
3D body "SOIC127P600-8N.step": height 3, standoff 0, extent -5.375,-9.1 5.375,9.1

## SSOP_28_5.3mm [mm] "/ 20190225 / C-A.Serna.A"
pads (28):
  rrect50% 1.25x0.42 smd: 1(-3.853,4.225) 2(-3.853,3.575) 3(-3.853,2.925) 4(-3.853,2.275) 5(-3.853,1.625) 6(-3.853,0.975) 7(-3.853,0.325) 8(-3.853,-0.325) 9(-3.853,-0.975) 10(-3.853,-1.625) 11(-3.853,-2.275) 12(-3.853,-2.925) 13(-3.853,-3.575) 14(-3.853,-4.225) 15(3.853,-4.225) 16(3.853,-3.575) 17(3.853,-2.925) 18(3.853,-2.275) 19(3.853,-1.625) 20(3.853,-0.975) 21(3.853,-0.325) 22(3.853,0.325) 23(3.853,0.975) 24(3.853,1.625) 25(3.853,2.275) 26(3.853,2.925) 27(3.853,3.575) 28(3.853,4.225)
Top Overlay:
  circle w0.127: c-2.031,4.131 r0.3
  circle w0.127: c-3.81,4.851 r0.125
  lines w0.127: -2.591,-4.767 2.667,-4.767 2.667,4.784 -2.591,4.784 -2.591,-4.767
  text "28" at 0.991,3.683 h0.76
3D body "User Library-SSOP-28-2.step": height 1.95, standoff -0.05, extent -3.83,-5.1 3.982,5.1

## TFBGA-265 [mil] "20220623 / E.Naranjo"
pads (265):
  round 9 smd paste+0 mask+3: A1(-251.97,251.97) A2(-220.47,251.97) A3(-188.98,251.97) A4(-157.48,251.97) A5(-125.98,251.97) A6(-94.49,251.97) A7(-62.99,251.97) A8(-31.5,251.97) A9(0,251.97) A10(31.5,251.97) A11(62.99,251.97) A12(94.49,251.97) A13(125.98,251.97) A14(157.48,251.97) A15(188.98,251.97) A16(220.47,251.97) A17(251.97,251.97) B1(-251.97,220.47) B2(-220.47,220.47) B3(-188.98,220.47) B4(-157.48,220.47) B5(-125.98,220.47) B6(-94.49,220.47) B7(-62.99,220.47) B8(-31.5,220.47) B9(0,220.47) B10(31.5,220.47) B11(62.99,220.47) B12(94.49,220.47) B13(125.98,220.47) B14(157.48,220.47) B15(188.98,220.47) B16(220.47,220.47) B17(251.97,220.47) C1(-251.97,188.98) C2(-220.47,188.98) C3(-188.98,188.98) C4(-157.48,188.98) C5(-125.98,188.98) C6(-94.49,188.98) C7(-62.99,188.98) C8(-31.5,188.98) C9(0,188.98) C10(31.5,188.98) C11(62.99,188.98) C12(94.49,188.98) C13(125.98,188.98) C14(157.48,188.98) C15(188.98,188.98) C16(220.47,188.98) C17(251.97,188.98) D1(-251.97,157.48) D2(-220.47,157.48) D3(-188.98,157.48) D4(-157.48,157.48) D5(-125.98,157.48) D6(-94.49,157.48) D7(-62.99,157.48) D8(-31.5,157.48) D9(0,157.48) D10(31.5,157.48) D11(62.99,157.48) D12(94.49,157.48) D13(125.98,157.48) D14(157.48,157.48) D15(188.98,157.48) D16(220.47,157.48) D17(251.97,157.48) E1(-251.97,125.98) E2(-220.47,125.98) E3(-188.98,125.98) E4(-157.48,125.98) E5(-125.98,125.98) E6(-94.49,125.98) E7(-62.99,125.98) E8(-31.5,125.98) E9(0,125.98) E10(31.5,125.98) E11(62.99,125.98) E12(94.49,125.98) E13(125.98,125.98) E14(157.48,125.98) E15(188.98,125.98) E16(220.47,125.98) E17(251.97,125.98) F1(-251.97,94.49) F2(-220.47,94.49) F3(-188.98,94.49) F4(-157.48,94.49) F5(-125.98,94.49) F13(125.98,94.49) F14(157.48,94.49) F15(188.98,94.49) F16(220.47,94.49) F17(251.97,94.49) G1(-251.97,62.99) G2(-220.47,62.99) G3(-188.98,62.99) G4(-157.48,62.99) G5(-125.98,62.99) G7(-62.99,62.99) G8(-31.5,62.99) G9(0,62.99) G10(31.5,62.99) G11(62.99,62.99) G13(125.98,62.99) G14(157.48,62.99) G15(188.98,62.99) G16(220.47,62.99) G17(251.97,62.99) H1(-251.97,31.5) H2(-220.47,31.5) H3(-188.98,31.5) H4(-157.48,31.5) H5(-125.98,31.5) H7(-62.99,31.5) H8(-31.5,31.5) H9(0,31.5) H10(31.5,31.5) H11(62.99,31.5) H13(125.98,31.5) H14(157.48,31.5) H15(188.98,31.5) H16(220.47,31.5) H17(251.97,31.5) J1(-251.97,0) J2(-220.47,0) J3(-188.98,0) J4(-157.48,0) J5(-125.98,0) J7(-62.99,0) J8(-31.5,0) J9(0,0) J10(31.5,0) J11(62.99,0) J13(125.98,0) J14(157.48,0) J15(188.98,0) J16(220.47,0) J17(251.97,0) K1(-251.97,-31.5) K2(-220.47,-31.5) K3(-188.98,-31.5) K4(-157.48,-31.5) K5(-125.98,-31.5) K7(-62.99,-31.5) K8(-31.5,-31.5) K9(0,-31.5) K10(31.5,-31.5) K11(62.99,-31.5) K13(125.98,-31.5) K14(157.48,-31.5) K15(188.98,-31.5) K16(220.47,-31.5) K17(251.97,-31.5) L1(-251.97,-62.99) L2(-220.47,-62.99) L3(-188.98,-62.99) L4(-157.48,-62.99) L5(-125.98,-62.99) L7(-62.99,-62.99) L8(-31.5,-62.99) L9(0,-62.99) L10(31.5,-62.99) L11(62.99,-62.99) L13(125.98,-62.99) L14(157.48,-62.99) L15(188.98,-62.99) L16(220.47,-62.99) L17(251.97,-62.99) M1(-251.97,-94.49) M2(-220.47,-94.49) M3(-188.98,-94.49) M4(-157.48,-94.49) M5(-125.98,-94.49) M13(125.98,-94.49) M14(157.48,-94.49) M15(188.98,-94.49) M16(220.47,-94.49) M17(251.97,-94.49) N1(-251.97,-125.98) N2(-220.47,-125.98) N3(-188.98,-125.98) N4(-157.48,-125.98) N5(-125.98,-125.98) N6(-94.49,-125.98) N7(-62.99,-125.98) N8(-31.5,-125.98) N9(0,-125.98) N10(31.5,-125.98) N11(62.99,-125.98) N12(94.49,-125.98) N13(125.98,-125.98) N14(157.48,-125.98) N15(188.98,-125.98) N16(220.47,-125.98) N17(251.97,-125.98) P1(-251.97,-157.48) P2(-220.47,-157.48) P3(-188.98,-157.48) P4(-157.48,-157.48) P5(-125.98,-157.48) P6(-94.49,-157.48) P7(-62.99,-157.48) P8(-31.5,-157.48) P9(0,-157.48) P10(31.5,-157.48) P11(62.99,-157.48) P12(94.49,-157.48) P13(125.98,-157.48) P14(157.48,-157.48) P15(188.98,-157.48) P16(220.47,-157.48) P17(251.97,-157.48) R1(-251.97,-188.98) R2(-220.47,-188.98) R3(-188.98,-188.98) R4(-157.48,-188.98) R5(-125.98,-188.98) R6(-94.49,-188.98) R7(-62.99,-188.98) R8(-31.5,-188.98) R9(0,-188.98) R10(31.5,-188.98) R11(62.99,-188.98) R12(94.49,-188.98) R13(125.98,-188.98) R14(157.48,-188.98) R15(188.98,-188.98) R16(220.47,-188.98) R17(251.97,-188.98) T1(-251.97,-220.47) T2(-220.47,-220.47) T3(-188.98,-220.47) T4(-157.48,-220.47) T5(-125.98,-220.47) T6(-94.49,-220.47) T7(-62.99,-220.47) T8(-31.5,-220.47) T9(0,-220.47) T10(31.5,-220.47) T11(62.99,-220.47) T12(94.49,-220.47) T13(125.98,-220.47) T14(157.48,-220.47) T15(188.98,-220.47) T16(220.47,-220.47) T17(251.97,-220.47) U1(-251.97,-251.97) U2(-220.47,-251.97) U3(-188.98,-251.97) U4(-157.48,-251.97) U5(-125.98,-251.97) U6(-94.49,-251.97) U7(-62.99,-251.97) U8(-31.5,-251.97) U9(0,-251.97) U10(31.5,-251.97) U11(62.99,-251.97) U12(94.49,-251.97) U13(125.98,-251.97) U14(157.48,-251.97) U15(188.98,-251.97) U16(220.47,-251.97) U17(251.97,-251.97)
Top Overlay:
  lines w5: -288.5,-188.98 -278.5,-188.98 ; -288.5,-31.5 -278.5,-31.5 ; -288.5,125.98 -278.5,125.98 ; -125.98,-288.5 -125.98,-278.5 ; -125.98,278.5 -125.98,288.5 ; 31.5,-288.5 31.5,-278.5 ; 31.5,278.5 31.5,288.5 ; 188.98,-288.5 188.98,-278.5 ; 188.98,278.5 188.98,288.5 ; 278.5,-188.98 288.5,-188.98 ; 278.5,-31.5 288.5,-31.5 ; 278.5,125.98 288.5,125.98 ; -283.5,-283.5 283.5,-283.5 283.5,283.5 -283.5,283.5 -283.5,-283.5
  text "A" at -328.5,226.97 h30
  text "U" at -328.5,-276.97 h30
  text "1" at -226.97,303.5 h30
  text "17" at 276.97,303.5 h30
Bottom Overlay:
  text "A" at -303.5,226.97 h50
  text "U" at -303.5,-276.97 h50
  text "1" at -276.97,303.5 h50
  text "17" at 226.97,303.5 h50
3D body "TFBGA240+25.step": height 43.43, standoff -0.01, extent -278.5,-278.5 278.5,278.5

## TQFP_32_7x7mm [mm] "32-TQFP / 20210211 / C-D Viveros"
height 1.6
pads (32):
  rrect50% 1.65x0.55 smd: 1(-4.2,2.8) 2(-4.2,2) 3(-4.2,1.2) 4(-4.2,0.4) 5(-4.2,-0.4) 6(-4.2,-1.2) 7(-4.2,-2) 8(-4.2,-2.8) 17(4.2,-2.8) 18(4.2,-2) 19(4.2,-1.2) 20(4.2,-0.4) 21(4.2,0.4) 22(4.2,1.2) 23(4.2,2) 24(4.2,2.8)
  rrect50% 0.55x1.65 smd: 9(-2.8,-4.2) 10(-2,-4.2) 11(-1.2,-4.2) 12(-0.4,-4.2) 13(0.4,-4.2) 14(1.2,-4.2) 15(2,-4.2) 16(2.8,-4.2) 25(2.8,4.2) 26(2,4.2) 27(1.2,4.2) 28(0.4,4.2) 29(-0.4,4.2) 30(-1.2,4.2) 31(-2,4.2) 32(-2.8,4.2)
Top Overlay:
  circle w0.6: c-1.95,1.95 r0.3
  circle w0.25: c-4.2,3.625 r0.125
  lines w0.2: -2.95,-2.95 2.95,-2.95 2.95,2.95 -2.95,2.95 -2.95,-2.95
Mechanical 1:
  circle w0.1: c-2.6,2.6 r0.5
  lines w0.1: -3.5,-3.5 3.5,-3.5 3.5,3.5 -3.5,3.5 -3.5,-3.5
Mechanical 15:
  lines w0.05: -5.25,-5.25 5.25,-5.25 5.25,5.25 -5.25,5.25 -5.25,-5.25
  lines w0.1: -0.5,0 0.5,0 ; 0,-0.5 0,0.5
3D body: height 1.2, standoff 0, extent -3.5,-3.5 3.5,3.5